# EAGLE library part 1-1740195-2 (library 1-1740195-2)
9 pos smt plug 4-40 threaded/inserts Source: Datasheet <http://www.te.com/commerce/DocumentDelivery/DDEController?Action=showdoc&DocId=Customer Drawing1740195EpdfEnglishENG_CD_1740195_E.pdf1-1740195-2>
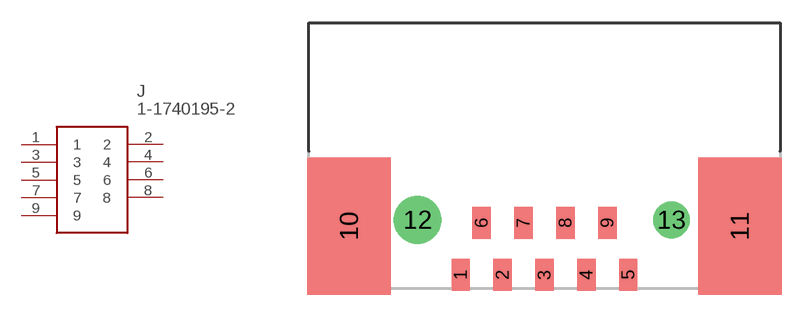
[diagram p0: symbol with the pads of 1-1740195-2; footprint 1-1740195-2]

Designator prefix J

## 1-1740195-2 (Allied_Number: 70287697; Allied_Price-Stock: http://www.alliedelec.com/te-connectivity-1-1740195-2/70287697/; Description: 9 pos smt plug 4-40 threaded/inserts; Height: mm; Manufacturer_Name: TE Connectivity; Manufacturer_Part_Number: 1-1740195-2; Mouser_Part_Number: 571-1-1740195-2; Mouser_Price-Stock: https://www.mouser.com/Search/Refine.aspx?Keyword=571-1-1740195-2; RS_Part_Number: 5269513P; RS_Price-Stock: http://uk.rs-online.com/web/p/products/5269513P)  [1-1740195-2]
1  1
2  2
3  3
4  4
5  5
6  6
7  7
8  8
9  9

## Footprint 1-1740195-2 (pad centres in mm)
1-1740195-2
smd 1.2 x 2.1: 1 -5.48,-16.5; 2 -2.74,-16.5; 3 0,-16.5; 4 2.74,-16.5; 5 5.48,-16.5; 6 -4.11,-13.1; 7 -1.37,-13.1; 8 1.37,-13.1; 9 4.11,-13.1
smd 5.45 x 9: 10 -12.775,-13.3; 11 12.775,-13.3
drill 2.1 pad 3: 12 -8.3,-12.9
drill 1.6 pad 2.35: 13 8.3,-12.9